# Altium footprint library SeniorDesign1.PcbLib: 1 footprints
Each footprint in its own frame and in the unit in brackets; x right, y up, seen from the top. Pads: shape width x height; smd on the part's side, far side on the other; paste and mask are expansions set on the pad; w line width, h text height; cw(c..) or ccw(c..) is an arc to the next point about the centre after c.
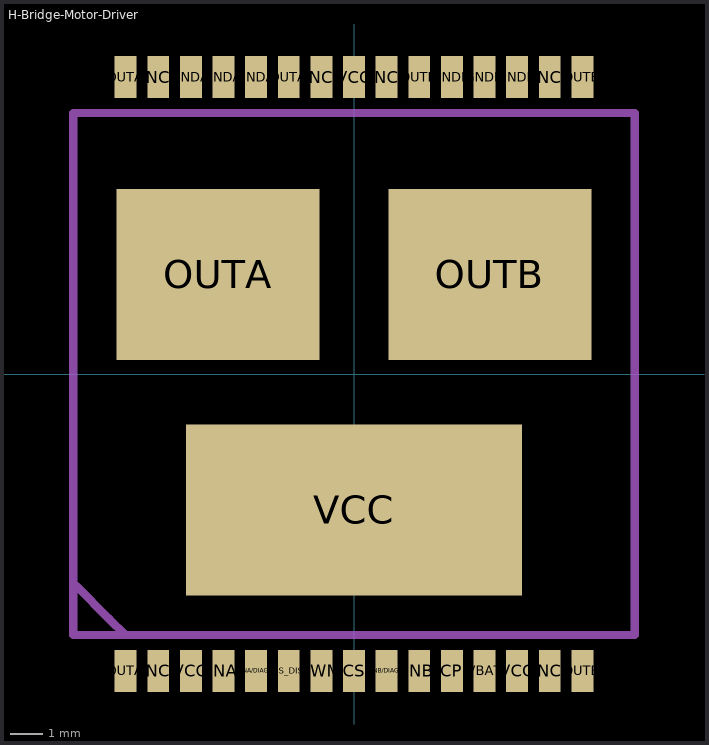
[diagram p0: the footprint, top view; thin cyan lines are the x and y axes]

## H-Bridge-Motor-Driver [mm]
height 2.35
pads (33):
  rect 0.67x1.3 smd: CP(3,-9.1) CS(0,-9.1) CS_DIS(-2,-9.1) ENA/DIAGA(-3,-9.1) ENB/DIAGB(1,-9.1) GNDA(-5,9.1) GNDA(-4,9.1) GNDA(-3,9.1) GNDB(3,9.1) GNDB(4,9.1) GNDB(5,9.1) INA(-4,-9.1) INB(2,-9.1) NC(-6,-9.1) NC(-6,9.1) NC(-1,9.1) NC(1,9.1) NC(6,-9.1) NC(6,9.1) OUTA(-7,-9.1) OUTA(-7,9.1) OUTA(-2,9.1) OUTB(2,9.1) OUTB(7,-9.1) OUTB(7,9.1) PWM(-1,-9.1) VBAT(4,-9.1) VCC(-5,-9.1) VCC(0,9.1) VCC(5,-9.1)
  rect 6.23x5.25 smd: OUTA(-4.165,3.05) OUTB(4.165,3.05)
  rect 10.3x5.25 smd: VCC(0,-4.165)
Top Assembly:
  lines w0.254: -8.5,-6.5 -7.5,-7.5 -7,-8 ; -8.6,-8 8.6,-8 8.6,8 -8.6,8 -8.6,-8
  text ".Designator" at -7,-7 h1.52
3D body: height 2.35, standoff 0, extent -8.6,-8 8.6,8